# Altium footprint library Relay_HK.PcbLib: 3 footprints
Each footprint in its own frame and in the unit in brackets; x right, y up, seen from the top. Pads: shape width x height; smd on the part's side, far side on the other; paste and mask are expansions set on the pad; w line width, h text height; cw(c..) or ccw(c..) is an arc to the next point about the centre after c.
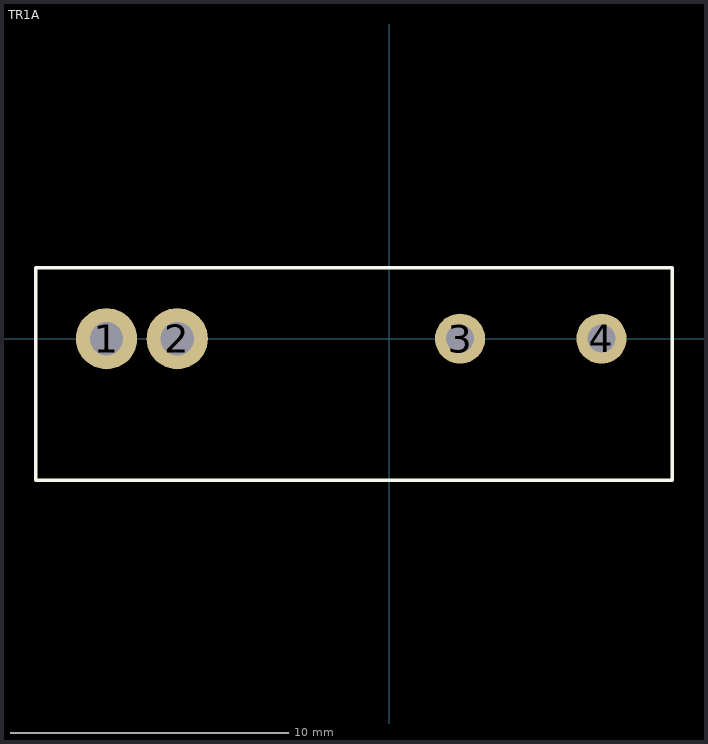
[diagram p0: the footprints below, top view; thin cyan lines are the x and y axes]

## PCBComponent_1 [mm]

## PCBComponent_1 - duplicate [mm]

## TR1A [mm]
height 5.96
pads (4):
  round 2.2 hole 1.2: 1(-10.16,0) 2(-7.62,0)
  round 1.8 hole 1: 3(2.54,0) 4(7.62,0)
Top Overlay:
  lines w0.127: -12.7,-5.08 -12.7,2.54 10.16,2.54 10.16,-5.08 -12.7,-5.08